# Altium footprint library DO.PcbLib: 5 footprints
Each footprint in its own frame and in the unit in brackets; x right, y up, seen from the top. Pads: shape width x height; smd on the part's side, far side on the other; paste and mask are expansions set on the pad; w line width, h text height; cw(c..) or ccw(c..) is an arc to the next point about the centre after c.
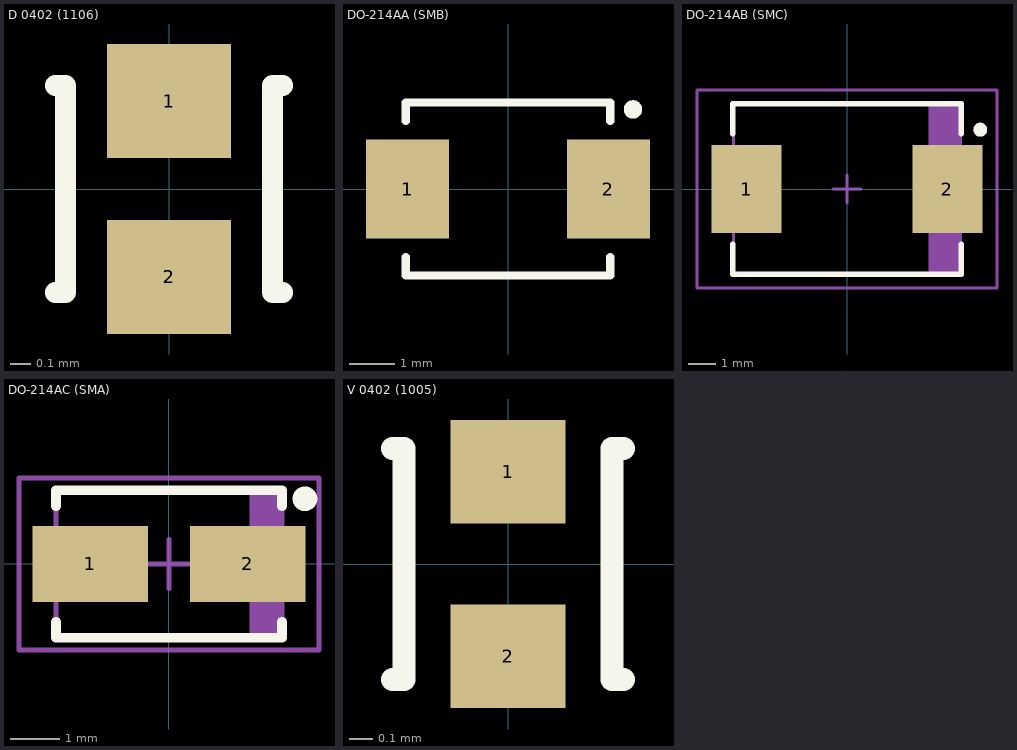
[diagram p0: the footprints below, top view; thin cyan lines are the x and y axes]

## D 0402 (1106) [mm]
pads (2):
  rect 0.6x0.55 smd: 1(0,0.425) 2(0,-0.425)
Top Overlay:
  lines w0.1: -0.55,-0.5 -0.5,-0.5 -0.5,0.5 -0.55,0.5 ; 0.55,-0.5 0.5,-0.5 0.5,0.5 0.55,0.5
3D body "User Library-D_1006.STEP": height 0.5, standoff 0, extent -0.3,-0.5 0.3,0.5

## DO-214AA (SMB) [mm]
pads (2):
  rect 1.82x2.18 smd: 1(-2.21,0) 2(2.21,0)
Top Overlay:
  circle w0.203: c2.75,1.75 r0.102
  lines w0.178: -2.25,-1.5 -2.25,-1.9 2.25,-1.9 2.25,-1.5 ; -2.25,1.5 -2.25,1.9 2.25,1.9 2.25,1.5
3D body "User Library-DIOM5539X24.step": height 2.45, standoff 0.03, extent -2.75,-1.95 2.75,1.95

## DO-214AB (SMC) [mm] "Molded Diode, 2-Leads, Body 7.9x5.8mm, IPC Low Density"
height 2.41
pads (2):
  rect 2.5x3.15 smd: 1(-3.6,0) 2(3.6,0)
Top Overlay:
  circle w0.25: c4.775,2.125 r0.125
  lines w0.2: -4.1,-1.975 -4.1,-3.05 4.1,-3.05 4.1,-1.975 ; -4.1,1.975 -4.1,3.05 4.1,3.05 4.1,1.975
Mechanical 13:
  rectangle: 2.92,-3.05 4.013,3.05
  lines w0.1: -4.065,-3.05 -4.065,3.05 4.065,3.05 4.065,-3.05 -4.065,-3.05
Mechanical 15:
  lines w0.1: -0.5,0 0.5,0 ; 0,-0.5 0,0.5 ; -5.375,-3.55 -5.375,3.55 5.375,3.55 5.375,-3.55 -5.375,-3.55
3D body "User Library-DO-214AB SMC.step": height 2.27, standoff -0.03, extent -3.975,-2.979 3.975,2.921

## DO-214AC (SMA) [mm] "Molded Diode, 2-Leads, Body 4.3x2.7mm, IPC Medium Density"
height 2.5
pads (2):
  rect 2.35x1.55 smd: 1(-1.6,0) 2(1.6,0)
Top Overlay:
  circle w0.25: c2.765,1.325 r0.125
  lines w0.2: -2.3,-1.175 -2.3,-1.5 2.3,-1.5 2.3,-1.175 ; -2.3,1.175 -2.3,1.5 2.3,1.5 2.3,1.175
Mechanical 13:
  rectangle: 1.637,-1.45 2.256,1.45
  lines w0.1: -2.3,-1.45 2.3,-1.45 2.3,1.45 -2.3,1.45 -2.3,-1.45
Mechanical 15:
  lines w0.1: -0.5,0 0.5,0 ; 0,-0.5 0,0.5 ; -3.05,-1.75 3.05,-1.75 3.05,1.75 -3.05,1.75 -3.05,-1.75
3D body "User Library-DO-214AC SMA.step": height 2.4, standoff 0, extent -2.6,-1.295 2.6,1.305

## V 0402 (1005) [mm]
pads (2):
  rect 0.5x0.45 smd mask+0.051: 1(0,0.4) 2(0,-0.4)
Top Overlay:
  lines w0.1: -0.5,-0.5 -0.45,-0.5 -0.45,0.5 -0.5,0.5 ; 0.5,-0.5 0.45,-0.5 0.45,0.5 0.5,0.5
3D body "User Library-V0402HD.STEP": height 0.6, standoff 0, extent -0.25,-0.5 0.25,0.5